# Altium footprint library Joystick.PcbLib: 1 footprints
Each footprint in its own frame and in the unit in brackets; x right, y up, seen from the top. Pads: shape width x height; smd on the part's side, far side on the other; paste and mask are expansions set on the pad; w line width, h text height; cw(c..) or ccw(c..) is an arc to the next point about the centre after c.
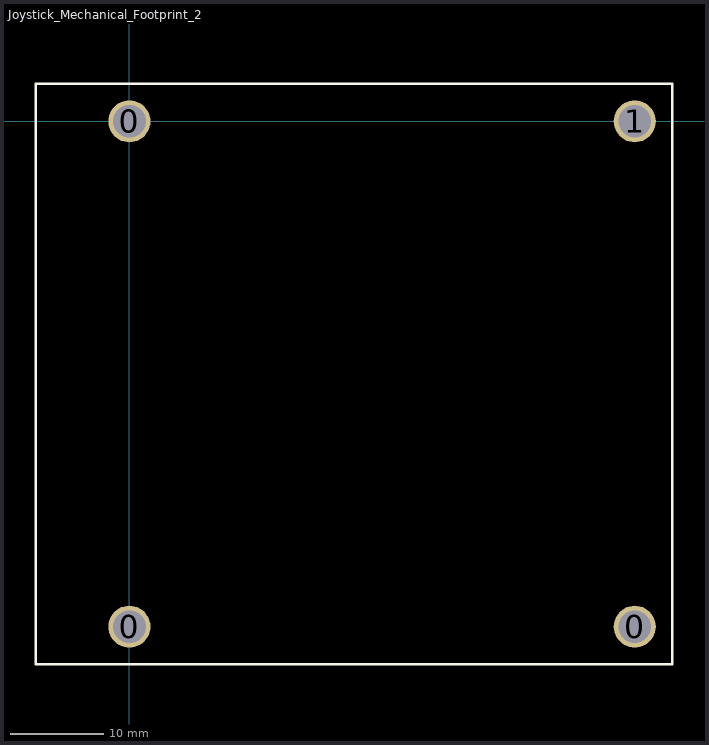
[diagram p0: the footprint, top view; thin cyan lines are the x and y axes]

## Joystick_Mechanical_Footprint_2 [mm] "Layout for mechanically connecting joystick to PCB"
pads (4):
  round 4.5 hole 3.5: 0(0,-54) 0(0,0) 0(54,-54) 1(54,0)
Top Overlay:
  lines w0.254: -10,-58 -10,4 58,4 58,-58 -10,-58